# Altium schematic symbol library JS7628_base_board_v1.5.0.SCHLIB: 33 symbols
Pins are listed as number, name and electrical type; pins without a type are passive.

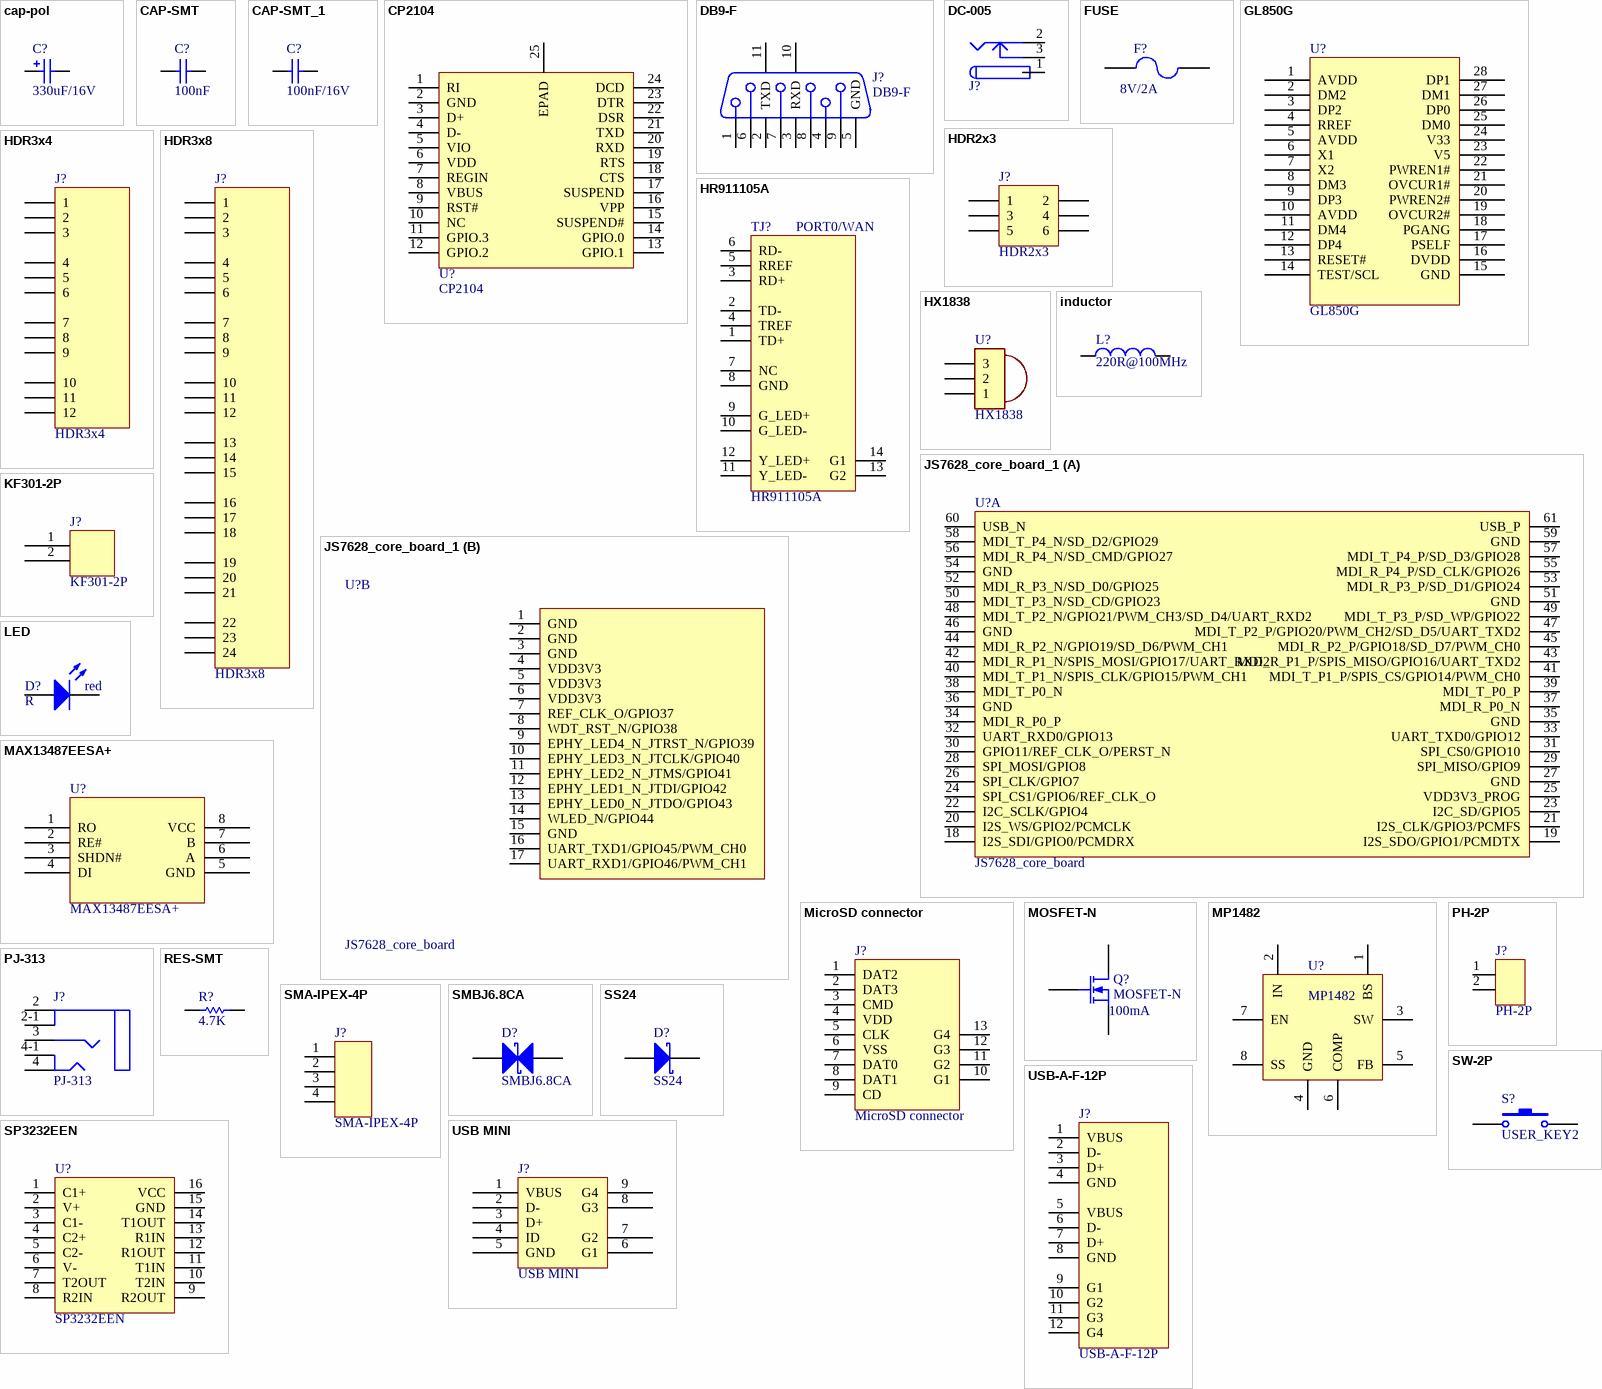
[diagram p0: symbols cap-pol to USB-A-F-12P]

## cap-pol
designator C?  value 330uF/16V  (hidden comment: cap-pol)
footprint RB3-8
footprint RB2.5-6.5
pins: 1, 2

## CAP-SMT
designator C?  value 100nF  (hidden comment: CAP-SMT)
footprint 0805
footprint 0603
footprint 0402
footprint 1206
pins: 1, 2

## CAP-SMT_1
designator C?, comment value 100nF/16V  (hidden comment: CAP-SMT)
footprint 0805
footprint 0603
footprint 0402
pins: 1, 2

## CP2104
designator U?
footprint QFN-24
pins: 1 RI, 2 GND, 3 D+, 4 D-, 5 VIO, 6 VDD, 7 REGIN, 8 VBUS, 9 RST#, 10 NC, 11 GPIO.3, 12 GPIO.2, 13 GPIO.1, 14 GPIO.0, 15 SUSPEND#, 16 VPP, 17 SUSPEND, 18 CTS, 19 RTS, 20 RXD, 21 TXD, 22 DSR, 23 DTR, 24 DCD, 25 EPAD

## DB9-F
designator J?
footprint DB9-F-90d
pins: 1, 2 TXD, 3 RXD, 4, 5 GND, 6, 7, 8, 9, 10 MH1, 11 MH2

## DC-005
designator J?  (value not drawn)
footprint DC-005
pins: 1, 2, 3

## FUSE
designator F?  value 8V/2A  (hidden comment: FUSE)
footprint 1812
pins: 1, 2

## GL850G
designator U?
footprint SSOP28 (SSOP, Plastic; 28 Leads; Body Width 5.3 mm; Pitch 0.65 mm)
footprint SSOP28 (SSOP, Plastic; 28 Leads; Body Width 5.3 mm; Pitch 0.65 mm)
pins: 1 AVDD, 2 DM2, 3 DP2, 4 RREF, 5 AVDD, 6 X1, 7 X2, 8 DM3, 9 DP3, 10 AVDD, 11 DM4, 12 DP4, 13 RESET#, 14 TEST/SCL, 15 GND, 16 DVDD, 17 PSELF, 18 PGANG, 19 OVCUR2#, 20 PWREN2#, 21 OVCUR1#, 22 PWREN1#, 23 V5, 24 V33, 25 DM0, 26 DP0, 27 DM1, 28 DP1

## HDR2x3
designator J?
footprint HDR2x3-2.54mm
pins: 1, 2, 3, 4, 5, 6

## HDR3x4
designator J?
footprint HDR3X4-2.54MM
pins: 1, 2, 3, 4, 5, 6, 7, 8, 9, 10, 11, 12

## HDR3x8
designator J?
footprint HDR3X8-2.54mm
pins: 1, 2, 3, 4, 5, 6, 7, 8, 9, 10, 11, 12, 13, 14, 15, 16, 17, 18, 19, 20, 21, 22, 23, 24

## HR911105A
designator TJ?  string: PORT0/WAN
footprint HR911105A
pins: 1 TD+, 2 TD-, 3 RD+, 4 TREF, 5 RREF, 6 RD-, 7 NC, 8 GND, 9 G_LED+, 10 G_LED-, 11 Y_LED-, 12 Y_LED+, 13 G2, 14 G1

## HX1838
designator U?
footprint HX1838
pins: 1, 2, 3

## inductor
designator L?  value 220R@100MHz  (hidden comment: inductor)
footprint CDRH-induct-12X12
footprint 0603
footprint 0805
footprint 1210
footprint 0402
footprint 1008
footprint CDRH-7x7
pins: 1, 2

## JS7628_core_board_1
designator U?, comment JS7628_core_board
footprint JS7628_core_board (61P,2.0mm)
part A pins: 18 I2S_SDI/GPIO0/PCMDRX, 19 I2S_SDO/GPIO1/PCMDTX, 20 I2S_WS/GPIO2/PCMCLK, 21 I2S_CLK/GPIO3/PCMFS, 22 I2C_SCLK/GPIO4, 23 I2C_SD/GPIO5, 24 SPI_CS1/GPIO6/REF_CLK_O, 25 VDD3V3_PROG, 26 SPI_CLK/GPIO7, 27 GND, 28 SPI_MOSI/GPIO8, 29 SPI_MISO/GPIO9, 30 GPIO11/REF_CLK_O/PERST_N, 31 SPI_CS0/GPIO10, 32 UART_RXD0/GPIO13, 33 UART_TXD0/GPIO12, 34 MDI_R_P0_P, 35 GND, 36 GND, 37 MDI_R_P0_N, 38 MDI_T_P0_N, 39 MDI_T_P0_P, 40 MDI_T_P1_N/SPIS_CLK/GPIO15/PWM_CH1, 41 MDI_T_P1_P/SPIS_CS/GPIO14/PWM_CH0, 42 MDI_R_P1_N/SPIS_MOSI/GPIO17/UART_RXD2, 43 MDI_R_P1_P/SPIS_MISO/GPIO16/UART_TXD2, 44 MDI_R_P2_N/GPIO19/SD_D6/PWM_CH1, 45 MDI_R_P2_P/GPIO18/SD_D7/PWM_CH0, 46 GND, 47 MDI_T_P2_P/GPIO20/PWM_CH2/SD_D5/UART_TXD2, 48 MDI_T_P2_N/GPIO21/PWM_CH3/SD_D4/UART_RXD2, 49 MDI_T_P3_P/SD_WP/GPIO22, 50 MDI_T_P3_N/SD_CD/GPIO23, 51 GND, 52 MDI_R_P3_N/SD_D0/GPIO25, 53 MDI_R_P3_P/SD_D1/GPIO24, 54 GND, 55 MDI_R_P4_P/SD_CLK/GPIO26, 56 MDI_R_P4_N/SD_CMD/GPIO27, 57 MDI_T_P4_P/SD_D3/GPIO28, 58 MDI_T_P4_N/SD_D2/GPIO29, 59 GND, 60 USB_N, 61 USB_P
part B pins: 1 GND, 2 GND, 3 GND, 4 VDD3V3, 5 VDD3V3, 6 VDD3V3, 7 REF_CLK_O/GPIO37, 8 WDT_RST_N/GPIO38, 9 EPHY_LED4_N_JTRST_N/GPIO39, 10 EPHY_LED3_N_JTCLK/GPIO40, 11 EPHY_LED2_N_JTMS/GPIO41, 12 EPHY_LED1_N_JTDI/GPIO42, 13 EPHY_LED0_N_JTDO/GPIO43, 14 WLED_N/GPIO44, 15 GND, 16 UART_TXD1/GPIO45/PWM_CH0, 17 UART_RXD1/GPIO46/PWM_CH1

## KF301-2P
designator J?
footprint KF301-2P (2P-5mm)
pins: 1, 2

## LED
designator D?, comment R  value red
footprint 0805-LED
footprint LED-3mm
footprint LED-3mm-90d
footprint LED-5mm-90d
pins: 1 A, 2 K

## MAX13487EESA+
designator U?
footprint SOIC-8P
pins: 1 RO, 2 RE#, 3 SHDN#, 4 DI, 5 GND, 6 A, 7 B, 8 VCC

## MicroSD connector
designator J?
footprint MicroSD_connecter
pins: 1 DAT2, 2 DAT3, 3 CMD, 4 VDD, 5 CLK, 6 VSS, 7 DAT0, 8 DAT1, 9 CD, 10 G1, 11 G2, 12 G3, 13 G4

## MOSFET-N
designator Q?  value 100mA
N-Channel MOSFET; Part number: AO3400; Published: 8-Jun-2000; LatestRevisionDate: 17-Jul-2002; LatestRevisionNote: Re-released for DXP Platform.; PackageVersion: 1995/1996; PackageReference: E3; Publisher: Altium Limited
footprint SOT23-3P
pins: 1 G, 2 S, 3 D

## MP1482
designator U?
footprint SOIC-8P
pins: 1 BS, 2 IN, 3 SW, 4 GND, 5 FB, 6 COMP, 7 EN, 8 SS

## PH-2P
designator J?
footprint PH2.0-2P
pins: 1, 2

## PJ-313
designator J?
footprint PJ-313
pins: 2 GND, 2-1, 3, 4, 4-1

## RES-SMT
designator R?  value 4.7K  (hidden comment: RES-SMT)
footprint 0805
footprint 0603
footprint 0402
pins: 1, 2

## SMA-IPEX-4P
designator J?
footprint SMA-4P
pins: 1, 2, 3, 4

## SMBJ6.8CA
designator D?
footprint SMB-BI
pins: 1 A, 2 K

## SP3232EEN
designator U?
footprint SOIC16_N
pins: 1 C1+, 2 V+, 3 C1-, 4 C2+, 5 C2-, 6 V-, 7 T2OUT, 8 R2IN, 9 R2OUT, 10 T2IN, 11 T1IN, 12 R1OUT, 13 R1IN, 14 T1OUT, 15 GND, 16 VCC

## SS24
designator D?
footprint SMB
pins: 1 A, 2 K

## SW-2P
designator S?, comment USER_KEY2
footprint SW-2P
pins: 1, 2

## USB MINI
designator J?
footprint USB/SM0.8-6H5 (Connector; USB2.0, Type B, SM; 5 Position; Right Angle)
pins: 1 VBUS, 2 D-, 3 D+, 4 ID, 5 GND, 6 G1, 7 G2, 8 G3, 9 G4

## USB-A-F-12P
designator J?
footprint USB-A-F-12P-90D
pins: 1 VBUS, 2 D-, 3 D+, 4 GND, 5 VBUS, 6 D-, 7 D+, 8 GND, 9 G1, 10 G2, 11 G3, 12 G4

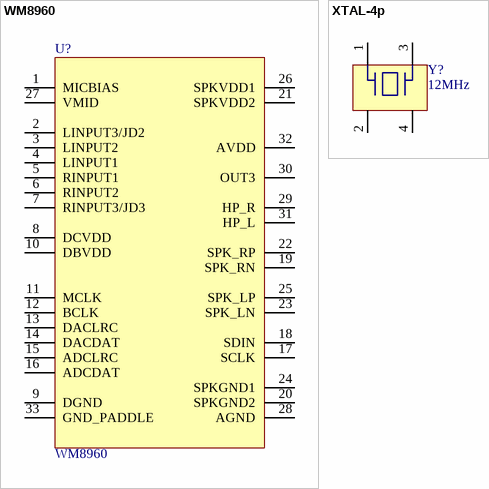
[diagram p1: symbols WM8960 to XTAL-4p]

## WM8960
designator U?
footprint QFN-32
pins: 1 MICBIAS, 2 LINPUT3/JD2, 3 LINPUT2, 4 LINPUT1, 5 RINPUT1, 6 RINPUT2, 7 RINPUT3/JD3, 8 DCVDD, 9 DGND, 10 DBVDD, 11 MCLK, 12 BCLK, 13 DACLRC, 14 DACDAT, 15 ADCLRC, 16 ADCDAT, 17 SCLK, 18 SDIN, 19 SPK_RN, 20 SPKGND2, 21 SPKVDD2, 22 SPK_RP, 23 SPK_LN, 24 SPKGND1, 25 SPK_LP, 26 SPKVDD1, 27 VMID, 28 AGND, 29 HP_R, 30 OUT3, 31 HP_L, 32 AVDD, 33 GND_PADDLE

## XTAL-4p
designator Y?  value 12MHz  (hidden comment: XTAL-4p)
footprint 3225-4P
pins: 1 0, 2, 3, 4